# EAGLE library part MOTOR_A4988_STEPPER_DRIVER (library Scott-ICs)
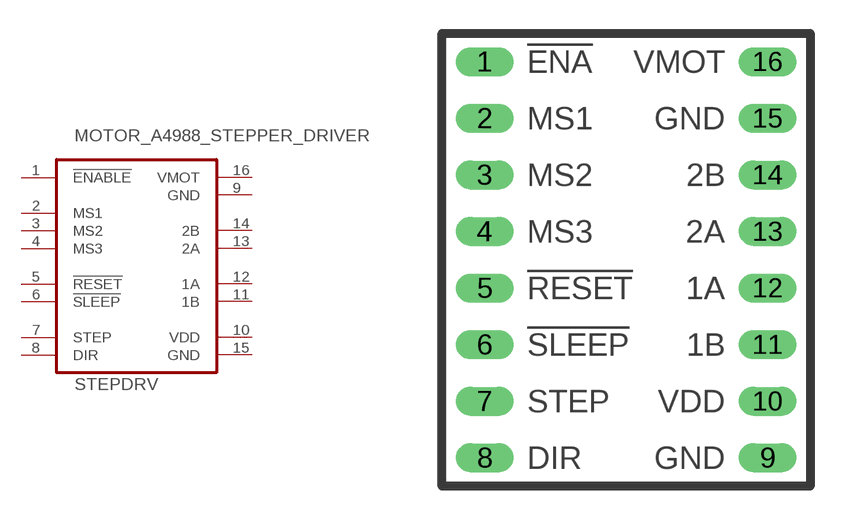
[diagram p0: symbol with the pads of A4988; footprint A4988]

Designator prefix STEPDRV

## MOTOR_A4988_STEPPER_DRIVER  [A4988]
1  !ENABLE  in
2  MS1  in
3  MS2  in
4  MS3  in
5  !RESET  in
6  !SLEEP  in
7  STEP  in
8  DIR  in
9  GND  pwr
10  VDD  pwr
11  1B  out
12  1A  out
13  2A  out
14  2B  out
15  GND  pwr
16  VMOT  pwr

## Footprint A4988 (pad centres in mm)
drill 0.8 long: 1 -7.62,7.62; 2 -7.62,5.08; 3 -7.62,2.54; 4 -7.62,0; 5 -7.62,-2.54; 6 -7.62,-5.08; 7 -7.62,-7.62; 8 -7.62,-10.16; 9 5.08,-10.16; 10 5.08,-7.62; 11 5.08,-5.08; 12 5.08,-2.54; 13 5.08,0; 14 5.08,2.54; 15 5.08,5.08; 16 5.08,7.62